# EAGLE library part LSM6DSOXTR (library LSM6DSOXTR)
INEMO INERTIAL MODULE: 3D ACCELE
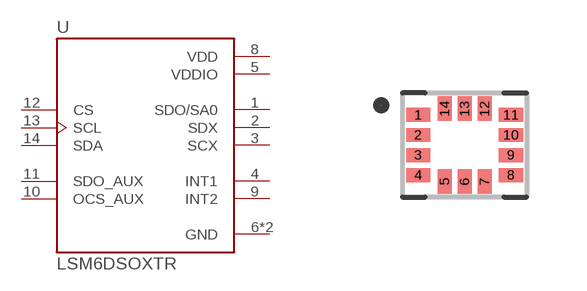
[diagram p0: symbol with the pads of PQFN50P250X300X86-14N; footprint PQFN50P250X300X86-14N]

Designator prefix U

## LSM6DSOXTR (Availability: Unavailable; Description: INEMO INERTIAL MODULE: 3D ACCELE; MF: STMicroelectronics; MP: LSM6DSOXTR; Package: VFLGA-14 STMicroelectronics; Price: None)  [PQFN50P250X300X86-14N]
1  SDO/SA0
2  SDX
3  SCX
4  INT1  out
5  VDDIO  pwr
6  GND  pwr
7  GND  pwr
8  VDD  pwr
9  INT2  out
10  OCS_AUX
11  SDO_AUX
12  CS  in
13  SCL  in
14  SDA

## Footprint PQFN50P250X300X86-14N (pad centres in mm)
smd 0.61 x 0.35: 1 -1.16,0.75; 2 -1.16,0.25; 3 -1.16,-0.25; 4 -1.16,-0.75; 8 1.16,-0.75; 9 1.16,-0.25; 10 1.16,0.25; 11 1.16,0.75
smd 0.35 x 0.61: 5 -0.5,-0.91; 6 0,-0.91; 7 0.5,-0.91; 12 0.5,0.91; 13 0,0.91; 14 -0.5,0.91